# Altium integrated library Altera Stratix II GX.IntLib: 75 symbols (part 3 of 53)
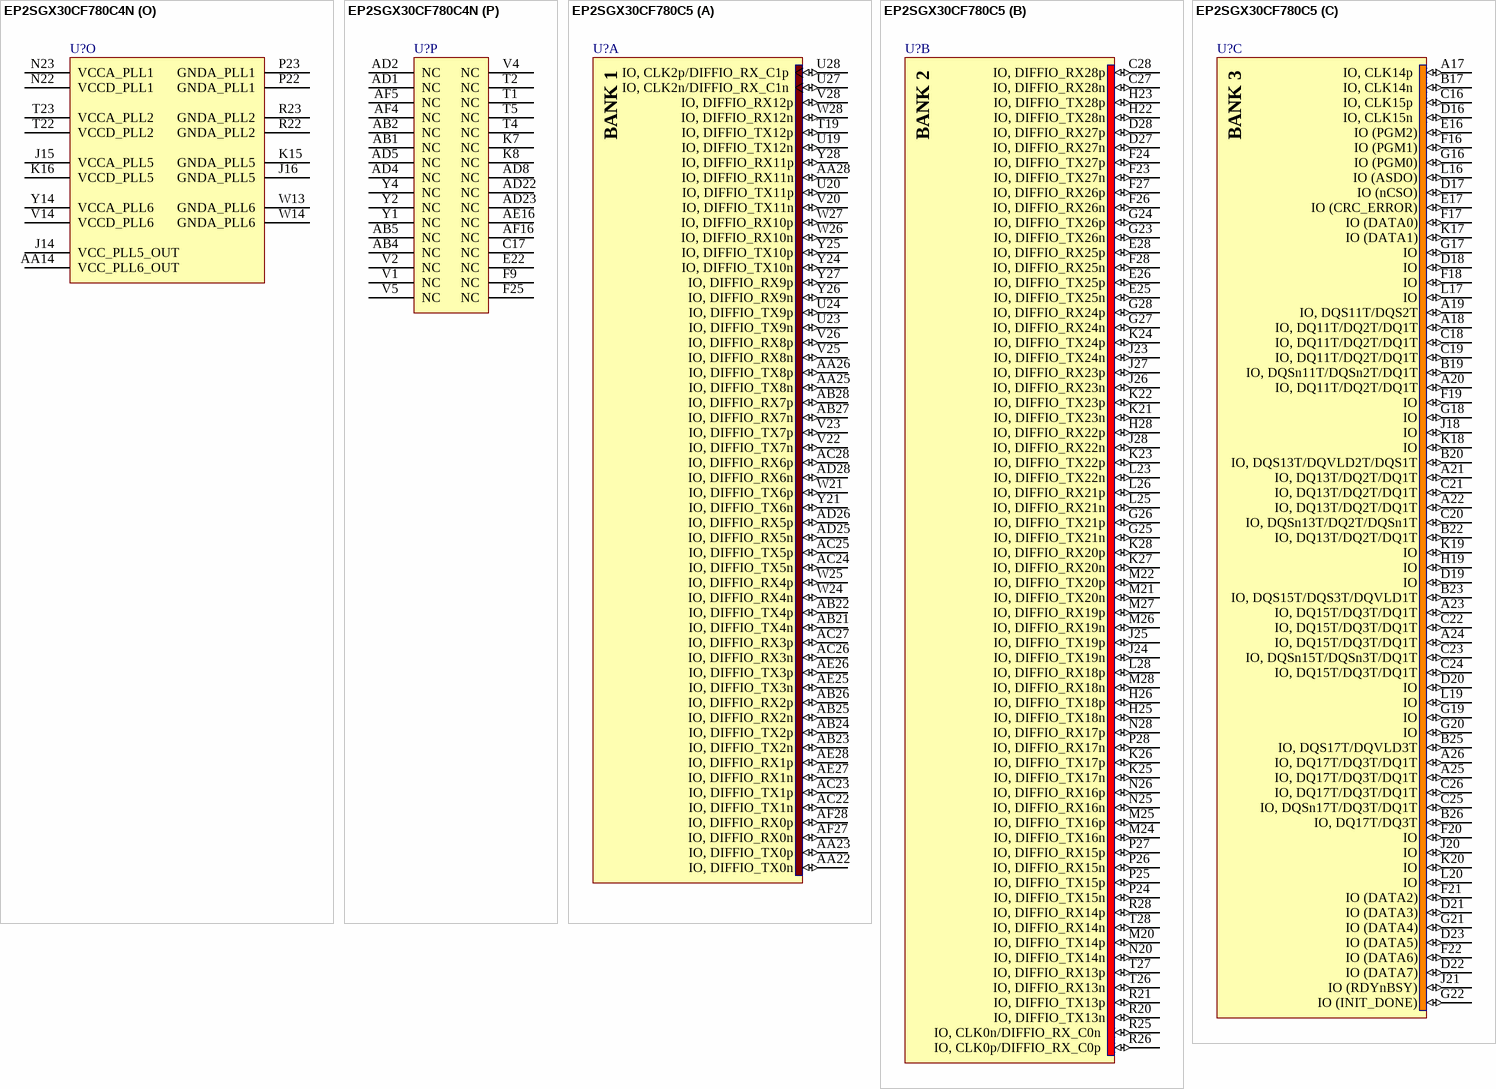
[diagram p229: symbols EP2SGX30CF780C4N to EP2SGX30CF780C5]

## EP2SGX30CF780C4N
designator U?
Stratix II GX 1.2V FPGA, 361 I/Os, 780-Pin FineLine BGA, Speed Grade 4, Commercial Grade, Pb-Free; Published: 30-Jun-2006; DatasheetVersion: ver4.3, Oct-2007; PackageVersion: ver16.0, Dec-2009; PackageReference: FBGA780; Publisher: Altium Limited; PackageDescription: 780-Ball FineLine Ball Grid Array (FBGA780) - Option 1 - Flip Chip; Supplier 1: Digi-Key; Supplier Part Number 1: 544-1927-ND; Code_JEDEC: MS-034-AAM-1; ComponentLink1Description: Manufacturer Link; ComponentLink1URL: http://www.altera.com/products/devices/stratix2gx/s2gx-index.jsp; ComponentLink2Description: Handbook; ComponentLink2URL: http://www.altera.com/literature/hb/stx2gx/stxiigx_handbook.pdf; ComponentLink3Description: Packaging Specification; ComponentLink3URL: http://www.altera.com/literature/ds/dspkg.pdf
footprint FBGA780 (BGA, 780-Leads, Body 29x29mm, Pitch 1mm)
3D model EP2SGX30C-FBGA780 (780-Ball FineLine Ball Grid Array (FBGA780) - Option 1 - Flip Chip)
signal-integrity model EP2SGX30CF780C4N (EP2SGX30C)
part A pins: AA22 IO, DIFFIO_TX0n (io), AA23 IO, DIFFIO_TX0p (io), AA25 IO, DIFFIO_TX8n (io), AA26 IO, DIFFIO_TX8p (io), AA28 IO, DIFFIO_RX11n (io), AB21 IO, DIFFIO_TX4n (io), AB22 IO, DIFFIO_TX4p (io), AB23 IO, DIFFIO_TX2n (io), AB24 IO, DIFFIO_TX2p (io), AB25 IO, DIFFIO_RX2n (io), AB26 IO, DIFFIO_RX2p (io), AB27 IO, DIFFIO_RX7n (io), AB28 IO, DIFFIO_RX7p (io), AC22 IO, DIFFIO_TX1n (io), AC23 IO, DIFFIO_TX1p (io), AC24 IO, DIFFIO_TX5n (io), AC25 IO, DIFFIO_TX5p (io), AC26 IO, DIFFIO_RX3n (io), AC27 IO, DIFFIO_RX3p (io), AC28 IO, DIFFIO_RX6p (io), AD25 IO, DIFFIO_RX5n (io), AD26 IO, DIFFIO_RX5p (io), AD28 IO, DIFFIO_RX6n (io), AE25 IO, DIFFIO_TX3n (io), AE26 IO, DIFFIO_TX3p (io), AE27 IO, DIFFIO_RX1n (io), AE28 IO, DIFFIO_RX1p (io), AF27 IO, DIFFIO_RX0n (io), AF28 IO, DIFFIO_RX0p (io), T19 IO, DIFFIO_TX12p (io), U19 IO, DIFFIO_TX12n (io), U20 IO, DIFFIO_TX11p (io), U23 IO, DIFFIO_TX9n (io), U24 IO, DIFFIO_TX9p (io), U27 IO, CLK2n/DIFFIO_RX_C1n (io), U28 IO, CLK2p/DIFFIO_RX_C1p (io), V20 IO, DIFFIO_TX11n (io), V22 IO, DIFFIO_TX7n (io), V23 IO, DIFFIO_TX7p (io), V25 IO, DIFFIO_RX8n (io), V26 IO, DIFFIO_RX8p (io), V28 IO, DIFFIO_RX12p (io), W21 IO, DIFFIO_TX6p (io), W24 IO, DIFFIO_RX4n (io), W25 IO, DIFFIO_RX4p (io), W26 IO, DIFFIO_RX10n (io), W27 IO, DIFFIO_RX10p (io), W28 IO, DIFFIO_RX12n (io), Y21 IO, DIFFIO_TX6n (io), Y24 IO, DIFFIO_TX10n (io), Y25 IO, DIFFIO_TX10p (io), Y26 IO, DIFFIO_RX9n (io), Y27 IO, DIFFIO_RX9p (io), Y28 IO, DIFFIO_RX11p (io)
part B pins: C27 IO, DIFFIO_RX28n (io), C28 IO, DIFFIO_RX28p (io), D27 IO, DIFFIO_RX27n (io), D28 IO, DIFFIO_RX27p (io), E25 IO, DIFFIO_TX25n (io), E26 IO, DIFFIO_TX25p (io), E28 IO, DIFFIO_RX25p (io), F23 IO, DIFFIO_TX27n (io), F24 IO, DIFFIO_TX27p (io), F26 IO, DIFFIO_RX26n (io), F27 IO, DIFFIO_RX26p (io), F28 IO, DIFFIO_RX25n (io), G23 IO, DIFFIO_TX26n (io), G24 IO, DIFFIO_TX26p (io), G25 IO, DIFFIO_TX21n (io), G26 IO, DIFFIO_TX21p (io), G27 IO, DIFFIO_RX24n (io), G28 IO, DIFFIO_RX24p (io), H22 IO, DIFFIO_TX28n (io), H23 IO, DIFFIO_TX28p (io), H25 IO, DIFFIO_TX18n (io), H26 IO, DIFFIO_TX18p (io), H28 IO, DIFFIO_RX22p (io), J23 IO, DIFFIO_TX24n (io), J24 IO, DIFFIO_TX19n (io), J25 IO, DIFFIO_TX19p (io), J26 IO, DIFFIO_RX23n (io), J27 IO, DIFFIO_RX23p (io), J28 IO, DIFFIO_RX22n (io), K21 IO, DIFFIO_TX23n (io), K22 IO, DIFFIO_TX23p (io), K23 IO, DIFFIO_TX22p (io), K24 IO, DIFFIO_TX24p (io), K25 IO, DIFFIO_TX17n (io), K26 IO, DIFFIO_TX17p (io), K27 IO, DIFFIO_RX20n (io), K28 IO, DIFFIO_RX20p (io), L23 IO, DIFFIO_TX22n (io), L25 IO, DIFFIO_RX21n (io), L26 IO, DIFFIO_RX21p (io), L28 IO, DIFFIO_RX18p (io), M20 IO, DIFFIO_TX14p (io), M21 IO, DIFFIO_TX20n (io), M22 IO, DIFFIO_TX20p (io), M24 IO, DIFFIO_TX16n (io), M25 IO, DIFFIO_TX16p (io), M26 IO, DIFFIO_RX19n (io), M27 IO, DIFFIO_RX19p (io), M28 IO, DIFFIO_RX18n (io), N20 IO, DIFFIO_TX14n (io), N25 IO, DIFFIO_RX16n (io), N26 IO, DIFFIO_RX16p (io), N28 IO, DIFFIO_RX17p (io), P24 IO, DIFFIO_TX15n (io), P25 IO, DIFFIO_TX15p (io), P26 IO, DIFFIO_RX15n (io), P27 IO, DIFFIO_RX15p (io), P28 IO, DIFFIO_RX17n (io), R20 IO, DIFFIO_TX13n (io), R21 IO, DIFFIO_TX13p (io), R25 IO, CLK0n/DIFFIO_RX_C0n (io), R26 IO, CLK0p/DIFFIO_RX_C0p (io), R28 IO, DIFFIO_RX14p (io), T26 IO, DIFFIO_RX13n (io), T27 IO, DIFFIO_RX13p (io), T28 IO, DIFFIO_RX14n (io)
part C pins: A17 IO, CLK14p (io), A18 IO, DQ11T/DQ2T/DQ1T (io), A19 IO, DQS11T/DQS2T (io), A20 IO, DQ11T/DQ2T/DQ1T (io), A21 IO, DQ13T/DQ2T/DQ1T (io), A22 IO, DQ13T/DQ2T/DQ1T (io), A23 IO, DQ15T/DQ3T/DQ1T (io), A24 IO, DQ15T/DQ3T/DQ1T (io), A25 IO, DQ17T/DQ3T/DQ1T (io), A26 IO, DQ17T/DQ3T/DQ1T (io), B17 IO, CLK14n (io), B19 IO, DQSn11T/DQSn2T/DQ1T (io), B20 IO, DQS13T/DQVLD2T/DQS1T (io), B22 IO, DQ13T/DQ2T/DQ1T (io), B23 IO, DQS15T/DQS3T/DQVLD1T (io), B25 IO, DQS17T/DQVLD3T (io), B26 IO, DQ17T/DQ3T (io), C16 IO, CLK15p (io), C18 IO, DQ11T/DQ2T/DQ1T (io), C19 IO, DQ11T/DQ2T/DQ1T (io), C20 IO, DQSn13T/DQ2T/DQSn1T (io), C21 IO, DQ13T/DQ2T/DQ1T (io), C22 IO, DQ15T/DQ3T/DQ1T (io), C23 IO, DQSn15T/DQSn3T/DQ1T (io), C24 IO, DQ15T/DQ3T/DQ1T (io), C25 IO, DQSn17T/DQ3T/DQ1T (io), C26 IO, DQ17T/DQ3T/DQ1T (io), D16 IO, CLK15n (io), D17 IO (nCSO) (io), D18 IO (io), D19 IO (io), D20 IO (io), D21 IO (DATA3) (io), D22 IO (DATA7) (io), D23 IO (DATA5) (io), E16 IO (PGM2) (io), E17 IO (CRC_ERROR) (io), F16 IO (PGM1) (io), F17 IO (DATA0) (io), F18 IO (io), F19 IO (io), F20 IO (io), F21 IO (DATA2) (io), F22 IO (DATA6) (io), G16 IO (PGM0) (io), G17 IO (io), G18 IO (io), G19 IO (io), G20 IO (io), G21 IO (DATA4) (io), G22 IO (INIT_DONE) (io), H19 IO (io), J18 IO (io), J20 IO (io), J21 IO (RDYnBSY) (io), K17 IO (DATA1) (io), K18 IO (io), K19 IO (io), K20 IO (io), L16 IO (ASDO) (io), L17 IO (io), L19 IO (io), L20 IO (io)
part D pins: A7 IO, DQ1T (io), A8 IO, DQ1T (io), A9 IO, DQ3T/DQ0T/DQ0T (io), A10 IO, DQ5T/DQ0T/DQ0T (io), A11 IO, DQ7T/DQ1T/DQ0T (io), A12 IO, DQ7T/DQ1T/DQ0T (io), A13 IO, DQ9T/DQ1T/DQ0T (io), A16 IO, CLK12p (io), B8 IO, DQSn1T (io), B10 IO, DQ3T/DQ0T/DQ0T (io), B11 IO, DQSn5T/DQ0T/DQSn0T (io), B13 IO, DQ9T/DQ1T/DQ0T (io), B14 IO, DQS9T/DQVLD1T (io), B16 IO, CLK12n (io), C7 IO, RUP4 (io), C8 IO, DQS1T (io), C9 IO, DQ3T/DQ0T/DQ0T (io), C10 IO, DQSn3T/DQSn0T/DQ0T (io), C11 IO, DQS5T/DQVLD0T/DQS0T (io), C12 IO, DQ5T/DQ0T/DQ0T (io), C13 IO, DQSn7T/DQSn1T/DQ0T (io), C14 IO, DQSn9T/DQ1T/DQ0T (io), D7 IO, RDN4 (io), D8 IO, DQ1T (io), D9 IO, DQ1T (io), D10 IO, DQS3T/DQS0T (io), D11 IO, DQ5T/DQ0T/DQ0T (io), D12 IO, DQ5T/DQ0T/DQ0T (io), D13 IO, DQS7T/DQS1T/DQVLD0T (io), D14 IO, DQ9T/DQ1T (io), E10 IO (io), E11 IO, DQ3T/DQ0T/DQ0T (io), E13 IO, DQ7T/DQ1T/DQ0T (io), E14 IO, DQ9T/DQ1T/DQ0T (io), F11 IO (io), F13 IO, DQ7T/DQ1T/DQ0T (io), F15 IO, CLK13p (io), G9 IO (io), G10 IO (io), G11 IO (io), G12 IO (io), G13 IO (io), G15 IO, CLK13n (io), H10 IO (io), H11 IO (io), H13 IO (io), J10 IO (io), J11 IO (io), K10 IO (io), K11 IO (io), K12 IO (io), K13 IO (io), K14 IO (io), L12 IO (io), L13 IO (io), L14 IO (io)
part E pins: AA11 IO (io), AB8 IO, RUP7 (io), AB9 IO (io), AB10 IO (io), AB11 IO (io), AB12 IO (io), AB13 IO (io), AC8 IO, RDN7 (io), AC9 IO (io), AC11 IO (io), AC12 IO (io), AC13 IO, DQ9B/DQ1B/DQ0B (io), AC14 IO, DQ9B/DQ1B/DQ0B (io), AD10 IO, DQ3B/DQ0B/DQ0B (io), AD11 IO, DQ5B/DQ0B/DQ0B (io), AD13 IO, DQ9B/DQ1B/DQ0B (io), AE7 IO, DQ1B (io), AE8 IO, DQ1B (io), AE9 IO, DQS3B/DQS0B (io), AE10 IO, DQ3B/DQ0B/DQ0B (io), AE11 IO, DQS5B/DQVLD0B/DQS0B (io), AE12 IO, DQS7B/DQS1B/DQVLD0B (io), AE13 IO, DQSn9B/DQ1B/DQ0B (io), AE15 IO, CLK7n (io), AF7 IO, DQ1B (io), AF8 IO, DQS1B (io), AF9 IO, DQSn3B/DQSn0B/DQ0B (io), AF10 IO, DQ5B/DQ0B/DQ0B (io), AF11 IO, DQSn5B/DQ0B/DQSn0B (io), AF12 IO, DQSn7B/DQSn1B/DQ0B (io), AF13 IO, DQS9B/DQVLD1B (io), AF15 IO, CLK7p (io), AG8 IO, DQSn1B (io), AG10 IO, DQ5B/DQ0B/DQ0B (io), AG11 IO, DQ7B/DQ1B/DQ0B (io), AG13 IO, DQ9B/DQ1B (io), AG16 IO, CLK6n (io), AH7 IO, DQ1B (io), AH8 IO, DQ3B/DQ0B/DQ0B (io), AH9 IO, DQ3B/DQ0B/DQ0B (io), AH10 IO, DQ5B/DQ0B/DQ0B (io), AH11 IO, DQ7B/DQ1B/DQ0B (io), AH12 IO, DQ7B/DQ1B/DQ0B (io), AH13 IO, DQ7B/DQ1B/DQ0B (io), AH16 IO, CLK6p (io), V11 IO (io), V13 IO (io), W9 IO (io), W10 IO (io), W11 IO (io), W12 IO (io), Y10 IO (io), Y11 IO (io), Y13 IO (io)
part F pins: AA17 IO (io), AA19 IO (io), AB15 IO, CLK5n (io), AB16 IO (io), AB17 IO (io), AB18 IO (io), AB19 IO (io), AB20 IO (io), AC15 IO, CLK5p (io), AC16 IO (RUnLU) (io), AC17 IO (io), AC18 IO (io), AC19 IO (io), AC20 IO (io), AC21 IO (CLKUSR) (io), AD16 IO (DEV_OE) (io), AD20 IO (io), AE17 IO (DEV_CLRn) (io), AE18 IO (io), AE19 IO (io), AE20 IO (io), AE21 IO (nRS) (io), AE22 IO (nWS) (io), AE23 IO (io), AE24 IO (CS) (io), AF17 IO (nCS) (io), AF18 IO, DQ11B/DQ2B/DQ1B (io), AF19 IO, DQ11B/DQ2B/DQ1B (io), AF20 IO, DQSn13B/DQ2B/DQSn1B (io), AF21 IO, DQ13B/DQ2B/DQ1B (io), AF22 IO, DQ15B/DQ3B/DQ1B (io), AF23 IO, DQSn15B/DQSn3B/DQ1B (io), AF24 IO, DQ15B/DQ3B/DQ1B (io), AF25 IO, DQSn17B/DQ3B/DQ1B (io), AF26 IO, DQ17B/DQ3B (io), AG17 IO, CLK4n (io), AG19 IO, DQSn11B/DQSn2B/DQ1B (io), AG20 IO, DQS13B/DQVLD2B/DQS1B (io), AG22 IO, DQ13B/DQ2B/DQ1B (io), AG23 IO, DQS15B/DQS3B/DQVLD1B (io), AG25 IO, DQS17B/DQVLD3B (io), AG26 IO, DQ17B/DQ3B/DQ1B (io), AH17 IO, CLK4p (io), AH18 IO, DQ11B/DQ2B/DQ1B (io), AH19 IO, DQS11B/DQS2B (io), AH20 IO, DQ11B/DQ2B/DQ1B (io), AH21 IO, DQ13B/DQ2B/DQ1B (io), AH22 IO, DQ13B/DQ2B/DQ1B (io), AH23 IO, DQ15B/DQ3B/DQ1B (io), AH24 IO, DQ15B/DQ3B/DQ1B (io), AH25 IO, DQ17B/DQ3B/DQ1B (io), AH26 IO, DQ17B/DQ3B/DQ1B (io), W15 IO (io), W16 IO (io), Y15 IO (io), Y17 IO (io)
part G pins: A14 IO, PLL5_OUT0n (io), A15 IO, PLL5_OUT0p (io), C15 IO, PLL5_OUT1p (io), D15 IO, PLL5_OUT1n (io), F14 IO, PLL5_FBp/OUT2p (io), G14 IO, PLL5_FBn/OUT2n (io)
part H pins: AD14 IO, PLL6_FBn/OUT2n (io), AE14 IO, PLL6_FBp/OUT2p (io), AF14 IO, PLL6_OUT1n (io), AG14 IO, PLL6_OUT1p (io), AH14 IO, PLL6_OUT0n (io), AH15 IO, PLL6_OUT0p (io)
part I pins: C4 GXB_TX1p (out), C5 GXB_TX1n (out), E1 GXB_RX1p (in), E2 GXB_RX1n (in), E4 GXB_TX0p (out), E5 GXB_TX0n (out), G1 GXB_RX0p (in), G2 GXB_RX0n (in), G4 REFCLK1_B13p (in), G5 REFCLK1_B13n (in), J1 REFCLK0_B13p (in), J2 REFCLK0_B13n (in), L1 GXB_RX2p (in), L2 GXB_RX2n (in), L4 GXB_TX2p (out), L5 GXB_TX2n (out), N1 GXB_RX3p (in), N2 GXB_RX3n (in), N4 GXB_TX3p (out), N5 GXB_TX3n (out)
part J pins: T24 CLK1n, INPUT (in), T25 CLK1p, INPUT (in), U25 CLK3n, INPUT (in), U26 CLK3p, INPUT (in)
part K pins: AB14 VREFB7N0 (in), AC10 VREFB7N1 (in), AD17 VREFB8N1 (in), AD19 VREFB8N0 (in), E19 VREFB3N0 (in), E20 VREFB3N1 (in), F10 VREFB4N0 (in), F12 VREFB4N1 (in), J4 RREFB13 (in), M23 VREFB2N1 (in), T21 VREFB2N0 (in), W23 VREFB1N1 (in), Y23 VREFB1N0 (in)
part L pins: AA8 PLL_ENA (in), AB7 nCEO (out), D24 nCE (in), D25 DCLK (io), D26 CONF_DONE (io), E8 MSEL1 (in), E23 nSTATUS (io), F7 TEMPDIODEp (in), F8 TDO (out), G7 TEMPDIODEn (in), G8 MSEL3 (in), H8 MSEL2 (in), J8 MSEL0 (in), J13 VCCPD4 (power), J17 VCCPD3 (power), P20 VCCPD2 (power), T20 VCCPD1 (power), V16 TCK (in), V17 nCONFIG (in), V19 TDI (in), W17 TRST (in), W18 VCCSEL (in), W19 TMS (in), Y7 nIO_PULLUP (in), Y8 PORSEL (in), Y12 VCCPD7 (power), Y16 VCCPD8 (power)
part M pins: AA10 VCCIO7 (power), AA13 VCCIO7 (power), AA16 VCCIO8 (power), H14 VCCIO4 (power), H17 VCCIO3 (power), H20 VCCIO3 (power), J9 VCCIO4 (power), J12 VCCIO4 (power), J19 VCCIO3 (power), J22 VCCIO2 (power), K9 VCCA (power), L6 VCCA (power), L7 VCCR (power), L8 VCCT_B13 (power), L9 VCCH_B13 (power), L10 VCCP (power), L22 VCCIO2 (power), M6 VCCA (power), M7 VCCR (power), M8 VCCT_B13 (power), M9 VCCH_B13 (power), M10 VCCP (power), M11 VCCINT (power), M13 VCCINT (power), M15 VCCINT (power), M17 VCCINT (power), N6 VCCL (power), N12 VCCINT (power), N14 VCCINT (power), N16 VCCINT (power), N18 VCCINT (power), N21 VCCIO2 (power), P7 VCCA (power), P9 VCCA (power), P11 VCCINT (power), P13 VCCINT (power), P15 VCCINT (power), P17 VCCINT (power), R6 VCCA (power), R7 VCCR (power), R8 VCCT_B14 (power), R9 VCCH_B14 (power), R10 VCCP (power), R12 VCCINT (power), R14 VCCINT (power), R16 VCCINT (power), R18 VCCINT (power), T6 VCCA (power), T7 VCCR (power), T8 VCCT_B14 (power), T9 VCCH_B14 (power), T10 VCCP (power), T11 VCCINT (power), T13 VCCINT (power), T15 VCCINT (power), T17 VCCINT (power), U6 VCCL (power), U12 VCCINT (power), U14 VCCINT (power), U16 VCCINT (power), U18 VCCINT (power), U22 VCCIO1 (power), V7 VCCA (power), V9 VCCA (power), V21 VCCIO1 (power), Y9 VCCIO7 (power), Y18 VCCIO8 (power), Y19 VCCIO8 (power), Y22 VCCIO1 (power)
part N pins: A2 GND (power), A3 GND (power), A4 GND (power), A5 GND (power), A6 GND (power), A27 GND (power), AA1 GND (power), AA2 GND (power), AA3 GND (power), AA4 GND (power), AA5 GND (power), AA6 GND (power), AA7 GND (power), AA9 GND (power), AA12 GND (power), AA15 GND (power), AA18 GND (power), AA20 GND (power), AA21 GND (power), AA24 GND (power), AA27 GND (power), AB3 GND (power), AB6 GND (power), AC1 GND (power), AC2 GND (power), AC3 GND (power), AC4 GND (power), AC5 GND (power), AC6 GND (power), AC7 GND (power), AD3 GND (power), AD6 GND (power), AD7 GND (power), AD9 GND (power), AD12 GND (power), AD15 GND (power), AD18 GND (power), AD21 GND (power), AD24 GND (power), AD27 GND (power), AE1 GND (power), AE2 GND (power), AE3 GND (power), AE4 GND (power), AE5 GND (power), AE6 GND (power), AF1 GND (power), AF2 GND (power), AF3 GND (power), AF6 GND (power), AG1 GND (power), AG2 GND (power), AG3 GND (power), AG4 GND (power), AG5 GND (power), AG6 GND (power), AG7 GND (power), AG9 GND (power), AG12 GND (power), AG15 GND (power), AG18 GND (power), AG21 GND (power), AG24 GND (power), AG27 GND (power), AG28 GND (power), AH2 GND (power), AH3 GND (power), AH4 GND (power), AH5 GND (power), AH6 GND (power), AH27 GND (power), B1 GND (power), B2 GND (power), B3 GND (power), B4 GND (power), B5 GND (power), B6 GND (power), B7 GND (power), B9 GND (power), B12 GND (power), B15 GND (power), B18 GND (power), B21 GND (power), B24 GND (power), B27 GND (power), B28 GND (power), C1 GND (power), C2 GND (power), C3 GND (power), C6 GND (power), D1 GND (power), D2 GND (power), D3 GND (power), D4 GND (power), D5 GND (power), D6 GND (power), E3 GND (power), E6 GND (power), E7 GND (power), E9 GND (power), E12 GND (power), E15 GND (power), E18 GND (power), E21 GND (power), E24 GND (power), E27 GND (power), F1 GND (power), F2 GND (power), F3 GND (power), F4 GND (power), F5 GND (power), F6 GND (power), G3 GND (power), G6 GND (power), H1 GND (power), H2 GND (power), H3 GND (power), H4 GND (power), H5 GND (power), H6 GND (power), H7 GND (power), H9 GND (power), H12 GND (power), H15 GND (power), H16 GND (power), H18 GND (power), H21 GND (power), H24 GND (power), H27 GND (power), J3 GND (power), J5 GND (power), J6 GND (power), J7 GND (power), K1 GND (power), K2 GND (power), K3 GND (power), K4 GND (power), K5 GND (power), K6 GND (power), L3 GND (power), L11 GND (power), L15 GND (power), L18 GND (power), L21 GND (power), L24 GND (power), L27 GND (power), M1 GND (power), M2 GND (power), M3 GND (power), M4 GND (power), M5 GND (power), M12 GND (power), M14 GND (power), M16 GND (power), M18 GND (power), M19 GND (power), N3 GND (power), N7 GND (power), N8 GND (power), N9 GND (power), N10 GND (power), N11 GND (power), N13 GND (power), N15 GND (power), N17 GND (power), N19 GND (power), N24 GND (power), N27 GND (power), P1 GND (power), P2 GND (power), P3 GND (power), P4 GND (power), P5 GND (power), P6 GND (power), P8 GND (power), P10 GND (power), P12 GND (power), P14 GND (power), P16 GND (power), P18 GND (power), P19 GND (power), P21 GND (power), R1 GND (power), R2 GND (power), R3 GND (power), R4 GND (power), R5 GND (power), R11 GND (power), R13 GND (power), R15 GND (power), R17 GND (power), R19 GND (power), R24 GND (power), R27 GND (power), T3 GND (power), T12 GND (power), T14 GND (power), T16 GND (power), T18 GND (power), U1 GND (power), U2 GND (power), U3 GND (power), U4 GND (power), U5 GND (power), U7 GND (power), U8 GND (power), U9 GND (power), U10 GND (power), U11 GND (power), U13 GND (power), U15 GND (power), U17 GND (power), U21 GND (power), V3 GND (power), V6 GND (power), V8 GND (power), V10 GND (power), V12 GND (power), V15 GND (power), V18 GND (power), V24 GND (power), V27 GND (power), W1 GND (power), W2 GND (power), W3 GND (power), W4 GND (power), W5 GND (power), W6 GND (power), W7 GND (power), W8 GND (power), W20 GND (power), W22 GND (power), Y3 GND (power), Y5 GND (power), Y6 GND (power), Y20 GND (power)
part O pins: AA14 VCC_PLL6_OUT (power), J14 VCC_PLL5_OUT (power), J15 VCCA_PLL5 (power), J16 GNDA_PLL5 (power), K15 GNDA_PLL5 (power), K16 VCCD_PLL5 (power), N22 VCCD_PLL1 (power), N23 VCCA_PLL1 (power), P22 GNDA_PLL1 (power), P23 GNDA_PLL1 (power), R22 GNDA_PLL2 (power), R23 GNDA_PLL2 (power), T22 VCCD_PLL2 (power), T23 VCCA_PLL2 (power), V14 VCCD_PLL6 (power), W13 GNDA_PLL6 (power), W14 GNDA_PLL6 (power), Y14 VCCA_PLL6 (power)
part P pins: AB1 NC, AB2 NC, AB4 NC, AB5 NC, AD1 NC, AD2 NC, AD4 NC, AD5 NC, AD8 NC, AD22 NC, AD23 NC, AE16 NC, AF4 NC, AF5 NC, AF16 NC, C17 NC, E22 NC, F9 NC, F25 NC, K7 NC, K8 NC, T1 NC, T2 NC, T4 NC, T5 NC, V1 NC, V2 NC, V4 NC, V5 NC, Y1 NC, Y2 NC, Y4 NC
part A text: BANK 1
part B text: BANK 2
part C text: BANK 3
part D text: BANK 4
part E text: BANK 7
part F text: BANK 8
part G text: BANK 9
part H text: BANK 10
part I text: BANK 13

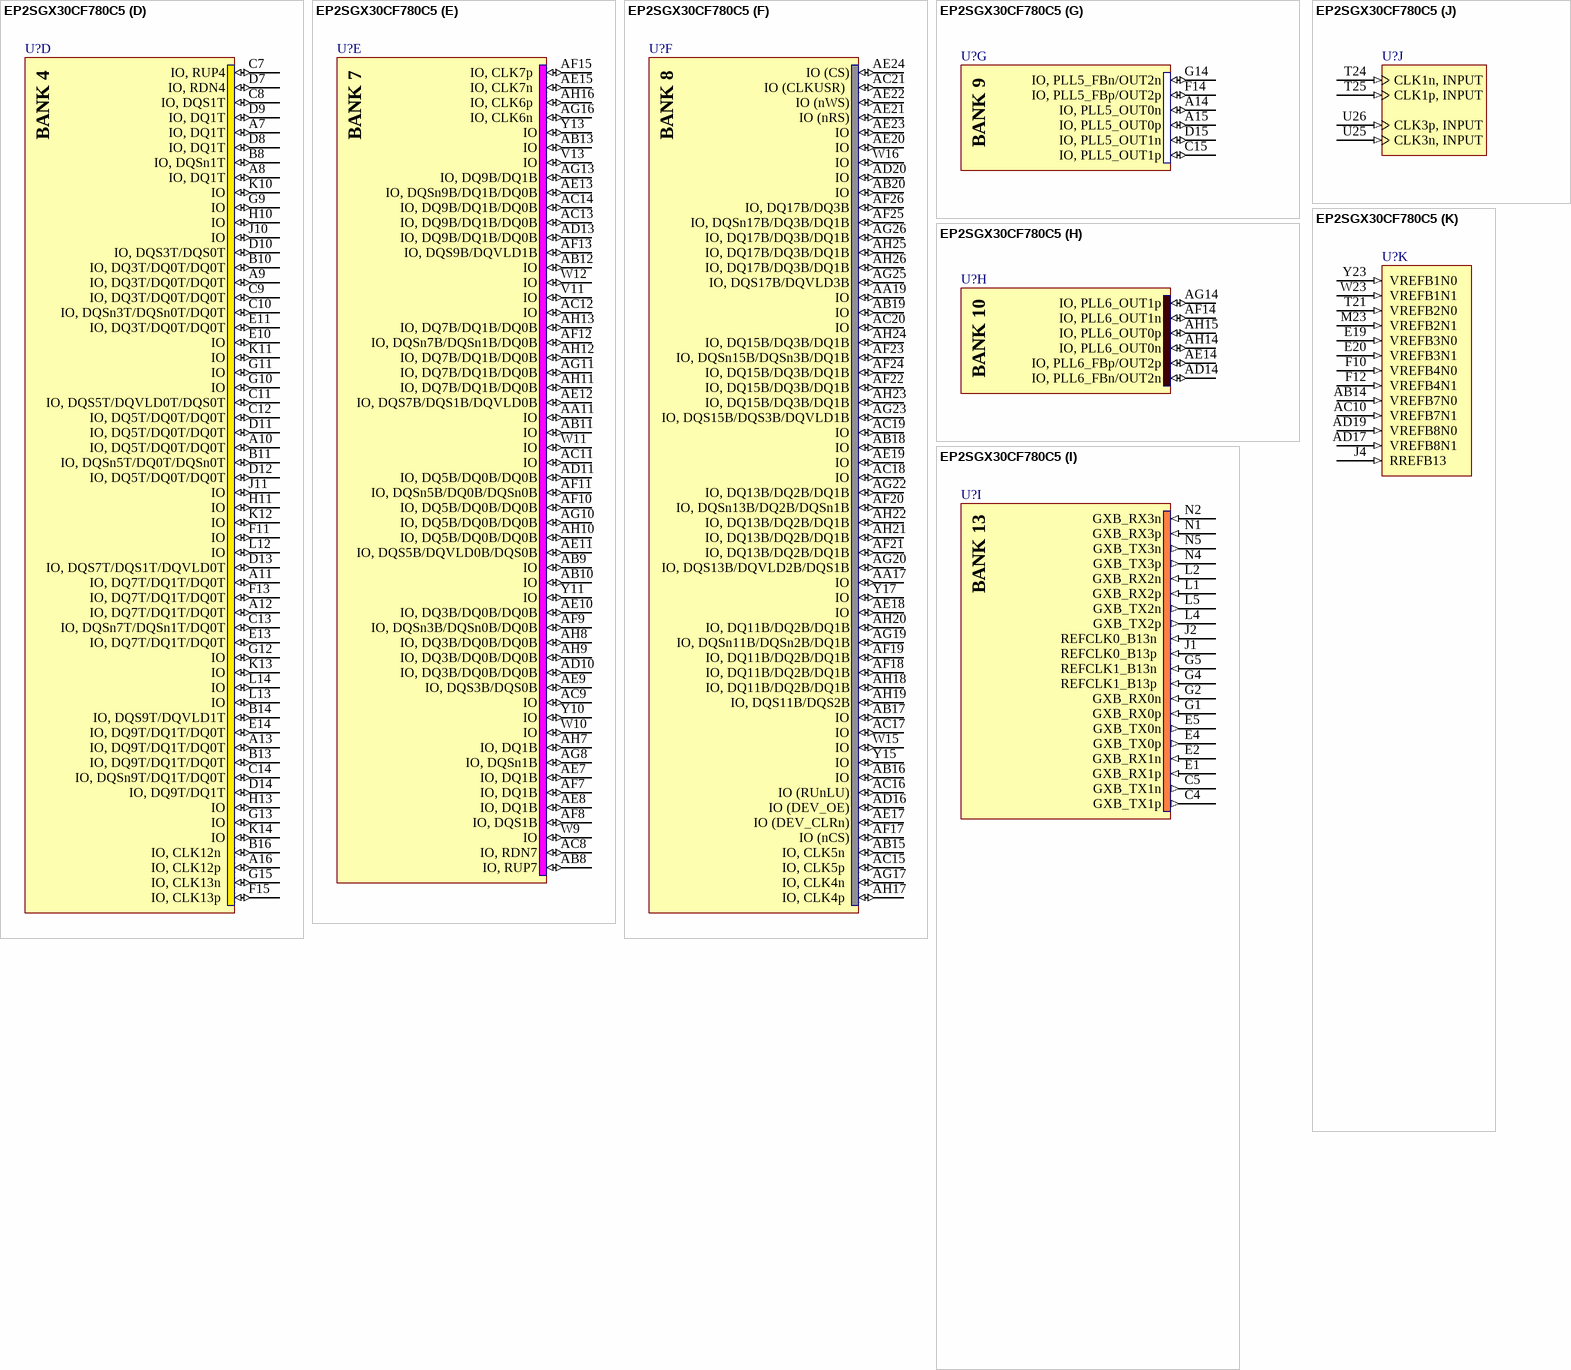
[diagram p11: symbol EP2SGX30CF780C5]

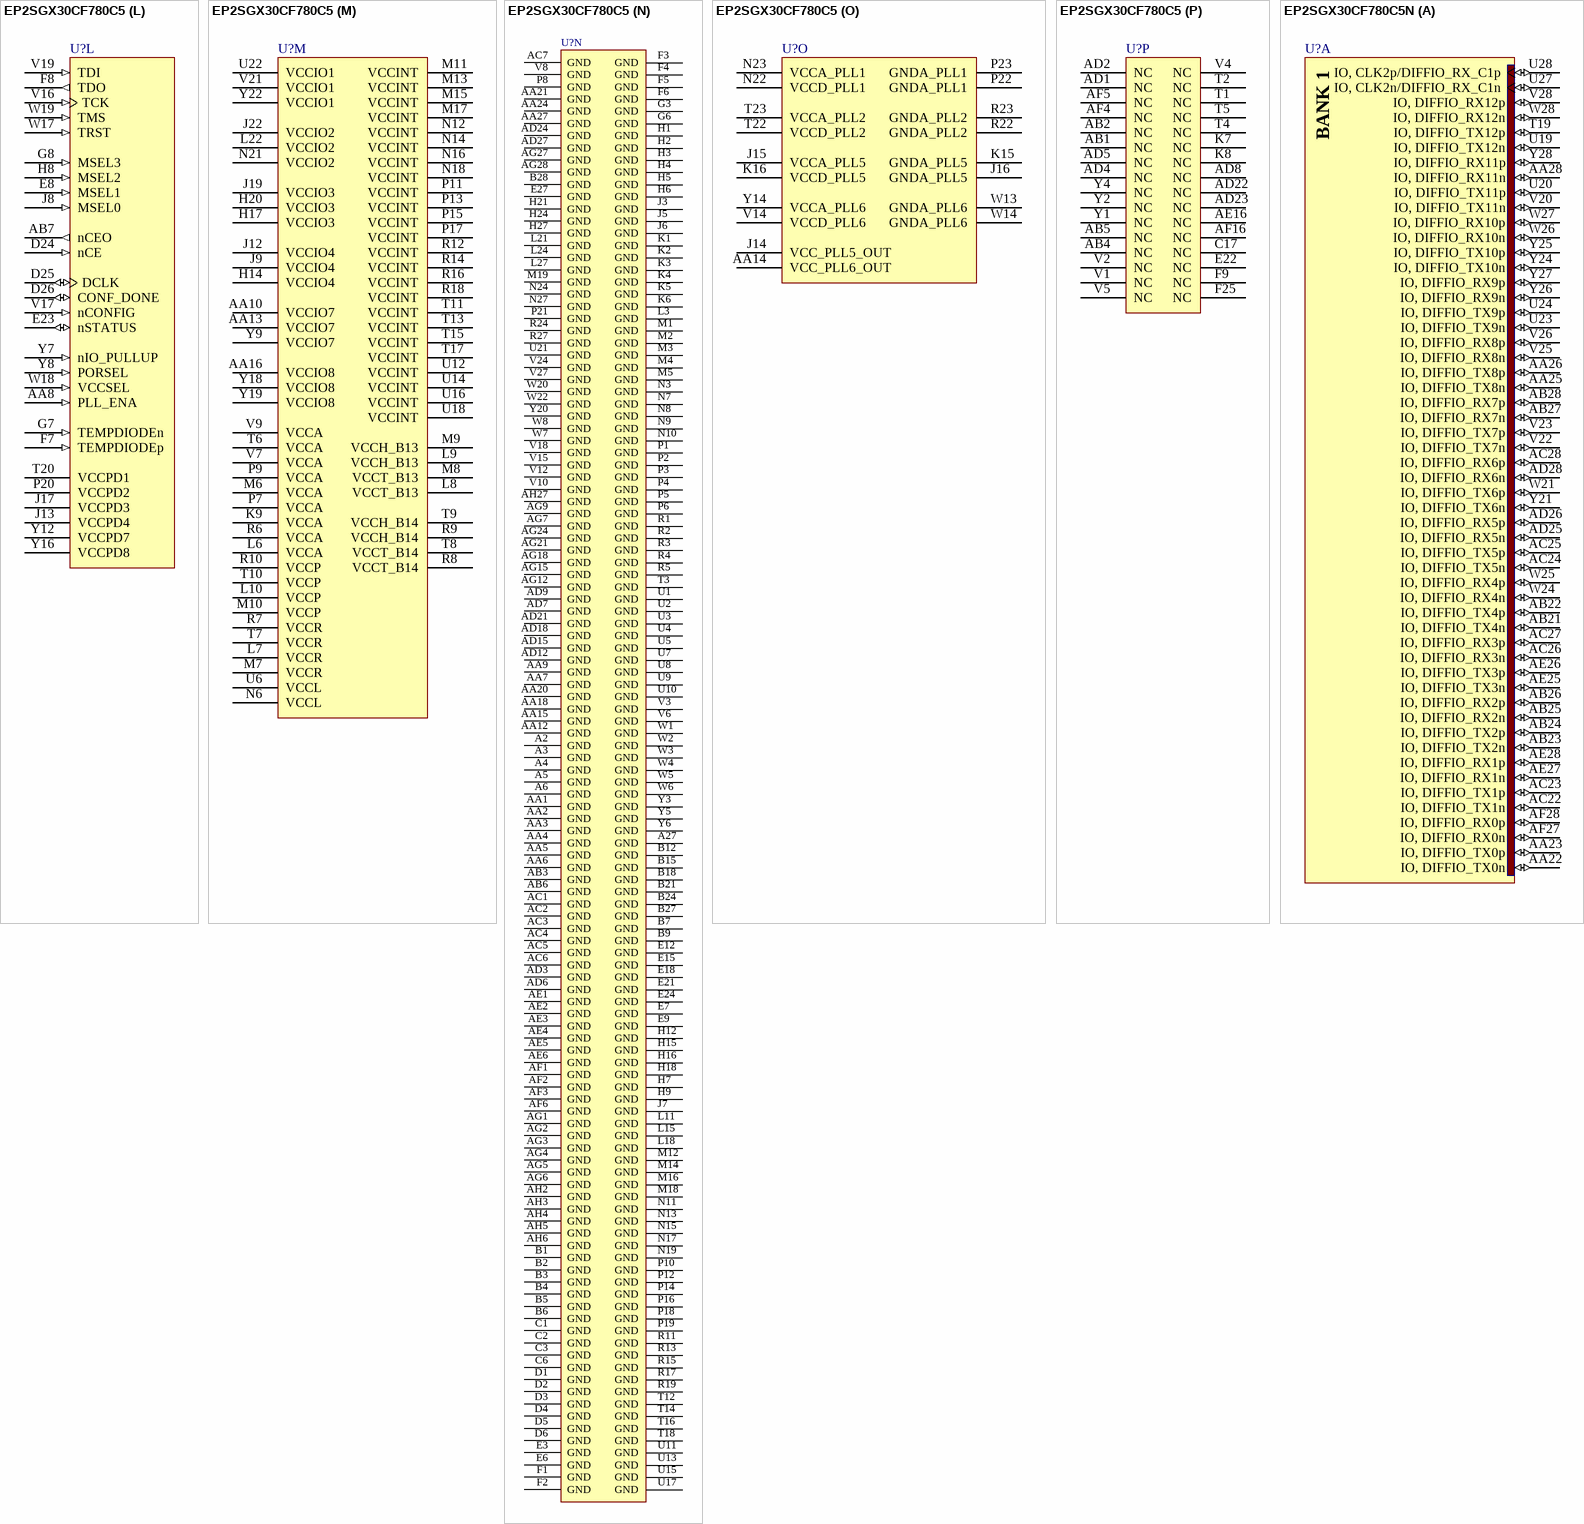
[diagram p12: symbols EP2SGX30CF780C5 to EP2SGX30CF780C5N]

## EP2SGX30CF780C5
designator U?
Stratix II GX 1.2V FPGA, 361 I/Os, 780-Pin FineLine BGA, Speed Grade 5, Commercial Grade; Published: 30-Jun-2006; DatasheetVersion: ver4.3, Oct-2007; PackageVersion: ver16.0, Dec-2009; PackageReference: FBGA780; Publisher: Altium Limited; PackageDescription: 780-Ball FineLine Ball Grid Array (FBGA780) - Option 1 - Flip Chip; Supplier 1: Digi-Key; Supplier Part Number 1: 544-1749-ND; Code_JEDEC: MS-034-AAM-1; ComponentLink1Description: Manufacturer Link; ComponentLink1URL: http://www.altera.com/products/devices/stratix2gx/s2gx-index.jsp; ComponentLink2Description: Handbook; ComponentLink2URL: http://www.altera.com/literature/hb/stx2gx/stxiigx_handbook.pdf; ComponentLink3Description: Packaging Specification; ComponentLink3URL: http://www.altera.com/literature/ds/dspkg.pdf
footprint FBGA780 (BGA, 780-Leads, Body 29x29mm, Pitch 1mm)
3D model EP2SGX30C-FBGA780 (780-Ball FineLine Ball Grid Array (FBGA780) - Option 1 - Flip Chip)
signal-integrity model EP2SGX30CF780C5 (EP2SGX30C)
part A pins: AA22 IO, DIFFIO_TX0n (io), AA23 IO, DIFFIO_TX0p (io), AA25 IO, DIFFIO_TX8n (io), AA26 IO, DIFFIO_TX8p (io), AA28 IO, DIFFIO_RX11n (io), AB21 IO, DIFFIO_TX4n (io), AB22 IO, DIFFIO_TX4p (io), AB23 IO, DIFFIO_TX2n (io), AB24 IO, DIFFIO_TX2p (io), AB25 IO, DIFFIO_RX2n (io), AB26 IO, DIFFIO_RX2p (io), AB27 IO, DIFFIO_RX7n (io), AB28 IO, DIFFIO_RX7p (io), AC22 IO, DIFFIO_TX1n (io), AC23 IO, DIFFIO_TX1p (io), AC24 IO, DIFFIO_TX5n (io), AC25 IO, DIFFIO_TX5p (io), AC26 IO, DIFFIO_RX3n (io), AC27 IO, DIFFIO_RX3p (io), AC28 IO, DIFFIO_RX6p (io), AD25 IO, DIFFIO_RX5n (io), AD26 IO, DIFFIO_RX5p (io), AD28 IO, DIFFIO_RX6n (io), AE25 IO, DIFFIO_TX3n (io), AE26 IO, DIFFIO_TX3p (io), AE27 IO, DIFFIO_RX1n (io), AE28 IO, DIFFIO_RX1p (io), AF27 IO, DIFFIO_RX0n (io), AF28 IO, DIFFIO_RX0p (io), T19 IO, DIFFIO_TX12p (io), U19 IO, DIFFIO_TX12n (io), U20 IO, DIFFIO_TX11p (io), U23 IO, DIFFIO_TX9n (io), U24 IO, DIFFIO_TX9p (io), U27 IO, CLK2n/DIFFIO_RX_C1n (io), U28 IO, CLK2p/DIFFIO_RX_C1p (io), V20 IO, DIFFIO_TX11n (io), V22 IO, DIFFIO_TX7n (io), V23 IO, DIFFIO_TX7p (io), V25 IO, DIFFIO_RX8n (io), V26 IO, DIFFIO_RX8p (io), V28 IO, DIFFIO_RX12p (io), W21 IO, DIFFIO_TX6p (io), W24 IO, DIFFIO_RX4n (io), W25 IO, DIFFIO_RX4p (io), W26 IO, DIFFIO_RX10n (io), W27 IO, DIFFIO_RX10p (io), W28 IO, DIFFIO_RX12n (io), Y21 IO, DIFFIO_TX6n (io), Y24 IO, DIFFIO_TX10n (io), Y25 IO, DIFFIO_TX10p (io), Y26 IO, DIFFIO_RX9n (io), Y27 IO, DIFFIO_RX9p (io), Y28 IO, DIFFIO_RX11p (io)
part B pins: C27 IO, DIFFIO_RX28n (io), C28 IO, DIFFIO_RX28p (io), D27 IO, DIFFIO_RX27n (io), D28 IO, DIFFIO_RX27p (io), E25 IO, DIFFIO_TX25n (io), E26 IO, DIFFIO_TX25p (io), E28 IO, DIFFIO_RX25p (io), F23 IO, DIFFIO_TX27n (io), F24 IO, DIFFIO_TX27p (io), F26 IO, DIFFIO_RX26n (io), F27 IO, DIFFIO_RX26p (io), F28 IO, DIFFIO_RX25n (io), G23 IO, DIFFIO_TX26n (io), G24 IO, DIFFIO_TX26p (io), G25 IO, DIFFIO_TX21n (io), G26 IO, DIFFIO_TX21p (io), G27 IO, DIFFIO_RX24n (io), G28 IO, DIFFIO_RX24p (io), H22 IO, DIFFIO_TX28n (io), H23 IO, DIFFIO_TX28p (io), H25 IO, DIFFIO_TX18n (io), H26 IO, DIFFIO_TX18p (io), H28 IO, DIFFIO_RX22p (io), J23 IO, DIFFIO_TX24n (io), J24 IO, DIFFIO_TX19n (io), J25 IO, DIFFIO_TX19p (io), J26 IO, DIFFIO_RX23n (io), J27 IO, DIFFIO_RX23p (io), J28 IO, DIFFIO_RX22n (io), K21 IO, DIFFIO_TX23n (io), K22 IO, DIFFIO_TX23p (io), K23 IO, DIFFIO_TX22p (io), K24 IO, DIFFIO_TX24p (io), K25 IO, DIFFIO_TX17n (io), K26 IO, DIFFIO_TX17p (io), K27 IO, DIFFIO_RX20n (io), K28 IO, DIFFIO_RX20p (io), L23 IO, DIFFIO_TX22n (io), L25 IO, DIFFIO_RX21n (io), L26 IO, DIFFIO_RX21p (io), L28 IO, DIFFIO_RX18p (io), M20 IO, DIFFIO_TX14p (io), M21 IO, DIFFIO_TX20n (io), M22 IO, DIFFIO_TX20p (io), M24 IO, DIFFIO_TX16n (io), M25 IO, DIFFIO_TX16p (io), M26 IO, DIFFIO_RX19n (io), M27 IO, DIFFIO_RX19p (io), M28 IO, DIFFIO_RX18n (io), N20 IO, DIFFIO_TX14n (io), N25 IO, DIFFIO_RX16n (io), N26 IO, DIFFIO_RX16p (io), N28 IO, DIFFIO_RX17p (io), P24 IO, DIFFIO_TX15n (io), P25 IO, DIFFIO_TX15p (io), P26 IO, DIFFIO_RX15n (io), P27 IO, DIFFIO_RX15p (io), P28 IO, DIFFIO_RX17n (io), R20 IO, DIFFIO_TX13n (io), R21 IO, DIFFIO_TX13p (io), R25 IO, CLK0n/DIFFIO_RX_C0n (io), R26 IO, CLK0p/DIFFIO_RX_C0p (io), R28 IO, DIFFIO_RX14p (io), T26 IO, DIFFIO_RX13n (io), T27 IO, DIFFIO_RX13p (io), T28 IO, DIFFIO_RX14n (io)
part C pins: A17 IO, CLK14p (io), A18 IO, DQ11T/DQ2T/DQ1T (io), A19 IO, DQS11T/DQS2T (io), A20 IO, DQ11T/DQ2T/DQ1T (io), A21 IO, DQ13T/DQ2T/DQ1T (io), A22 IO, DQ13T/DQ2T/DQ1T (io), A23 IO, DQ15T/DQ3T/DQ1T (io), A24 IO, DQ15T/DQ3T/DQ1T (io), A25 IO, DQ17T/DQ3T/DQ1T (io), A26 IO, DQ17T/DQ3T/DQ1T (io), B17 IO, CLK14n (io), B19 IO, DQSn11T/DQSn2T/DQ1T (io), B20 IO, DQS13T/DQVLD2T/DQS1T (io), B22 IO, DQ13T/DQ2T/DQ1T (io), B23 IO, DQS15T/DQS3T/DQVLD1T (io), B25 IO, DQS17T/DQVLD3T (io), B26 IO, DQ17T/DQ3T (io), C16 IO, CLK15p (io), C18 IO, DQ11T/DQ2T/DQ1T (io), C19 IO, DQ11T/DQ2T/DQ1T (io), C20 IO, DQSn13T/DQ2T/DQSn1T (io), C21 IO, DQ13T/DQ2T/DQ1T (io), C22 IO, DQ15T/DQ3T/DQ1T (io), C23 IO, DQSn15T/DQSn3T/DQ1T (io), C24 IO, DQ15T/DQ3T/DQ1T (io), C25 IO, DQSn17T/DQ3T/DQ1T (io), C26 IO, DQ17T/DQ3T/DQ1T (io), D16 IO, CLK15n (io), D17 IO (nCSO) (io), D18 IO (io), D19 IO (io), D20 IO (io), D21 IO (DATA3) (io), D22 IO (DATA7) (io), D23 IO (DATA5) (io), E16 IO (PGM2) (io), E17 IO (CRC_ERROR) (io), F16 IO (PGM1) (io), F17 IO (DATA0) (io), F18 IO (io), F19 IO (io), F20 IO (io), F21 IO (DATA2) (io), F22 IO (DATA6) (io), G16 IO (PGM0) (io), G17 IO (io), G18 IO (io), G19 IO (io), G20 IO (io), G21 IO (DATA4) (io), G22 IO (INIT_DONE) (io), H19 IO (io), J18 IO (io), J20 IO (io), J21 IO (RDYnBSY) (io), K17 IO (DATA1) (io), K18 IO (io), K19 IO (io), K20 IO (io), L16 IO (ASDO) (io), L17 IO (io), L19 IO (io), L20 IO (io)
part D pins: A7 IO, DQ1T (io), A8 IO, DQ1T (io), A9 IO, DQ3T/DQ0T/DQ0T (io), A10 IO, DQ5T/DQ0T/DQ0T (io), A11 IO, DQ7T/DQ1T/DQ0T (io), A12 IO, DQ7T/DQ1T/DQ0T (io), A13 IO, DQ9T/DQ1T/DQ0T (io), A16 IO, CLK12p (io), B8 IO, DQSn1T (io), B10 IO, DQ3T/DQ0T/DQ0T (io), B11 IO, DQSn5T/DQ0T/DQSn0T (io), B13 IO, DQ9T/DQ1T/DQ0T (io), B14 IO, DQS9T/DQVLD1T (io), B16 IO, CLK12n (io), C7 IO, RUP4 (io), C8 IO, DQS1T (io), C9 IO, DQ3T/DQ0T/DQ0T (io), C10 IO, DQSn3T/DQSn0T/DQ0T (io), C11 IO, DQS5T/DQVLD0T/DQS0T (io), C12 IO, DQ5T/DQ0T/DQ0T (io), C13 IO, DQSn7T/DQSn1T/DQ0T (io), C14 IO, DQSn9T/DQ1T/DQ0T (io), D7 IO, RDN4 (io), D8 IO, DQ1T (io), D9 IO, DQ1T (io), D10 IO, DQS3T/DQS0T (io), D11 IO, DQ5T/DQ0T/DQ0T (io), D12 IO, DQ5T/DQ0T/DQ0T (io), D13 IO, DQS7T/DQS1T/DQVLD0T (io), D14 IO, DQ9T/DQ1T (io), E10 IO (io), E11 IO, DQ3T/DQ0T/DQ0T (io), E13 IO, DQ7T/DQ1T/DQ0T (io), E14 IO, DQ9T/DQ1T/DQ0T (io), F11 IO (io), F13 IO, DQ7T/DQ1T/DQ0T (io), F15 IO, CLK13p (io), G9 IO (io), G10 IO (io), G11 IO (io), G12 IO (io), G13 IO (io), G15 IO, CLK13n (io), H10 IO (io), H11 IO (io), H13 IO (io), J10 IO (io), J11 IO (io), K10 IO (io), K11 IO (io), K12 IO (io), K13 IO (io), K14 IO (io), L12 IO (io), L13 IO (io), L14 IO (io)
part E pins: AA11 IO (io), AB8 IO, RUP7 (io), AB9 IO (io), AB10 IO (io), AB11 IO (io), AB12 IO (io), AB13 IO (io), AC8 IO, RDN7 (io), AC9 IO (io), AC11 IO (io), AC12 IO (io), AC13 IO, DQ9B/DQ1B/DQ0B (io), AC14 IO, DQ9B/DQ1B/DQ0B (io), AD10 IO, DQ3B/DQ0B/DQ0B (io), AD11 IO, DQ5B/DQ0B/DQ0B (io), AD13 IO, DQ9B/DQ1B/DQ0B (io), AE7 IO, DQ1B (io), AE8 IO, DQ1B (io), AE9 IO, DQS3B/DQS0B (io), AE10 IO, DQ3B/DQ0B/DQ0B (io), AE11 IO, DQS5B/DQVLD0B/DQS0B (io), AE12 IO, DQS7B/DQS1B/DQVLD0B (io), AE13 IO, DQSn9B/DQ1B/DQ0B (io), AE15 IO, CLK7n (io), AF7 IO, DQ1B (io), AF8 IO, DQS1B (io), AF9 IO, DQSn3B/DQSn0B/DQ0B (io), AF10 IO, DQ5B/DQ0B/DQ0B (io), AF11 IO, DQSn5B/DQ0B/DQSn0B (io), AF12 IO, DQSn7B/DQSn1B/DQ0B (io), AF13 IO, DQS9B/DQVLD1B (io), AF15 IO, CLK7p (io), AG8 IO, DQSn1B (io), AG10 IO, DQ5B/DQ0B/DQ0B (io), AG11 IO, DQ7B/DQ1B/DQ0B (io), AG13 IO, DQ9B/DQ1B (io), AG16 IO, CLK6n (io), AH7 IO, DQ1B (io), AH8 IO, DQ3B/DQ0B/DQ0B (io), AH9 IO, DQ3B/DQ0B/DQ0B (io), AH10 IO, DQ5B/DQ0B/DQ0B (io), AH11 IO, DQ7B/DQ1B/DQ0B (io), AH12 IO, DQ7B/DQ1B/DQ0B (io), AH13 IO, DQ7B/DQ1B/DQ0B (io), AH16 IO, CLK6p (io), V11 IO (io), V13 IO (io), W9 IO (io), W10 IO (io), W11 IO (io), W12 IO (io), Y10 IO (io), Y11 IO (io), Y13 IO (io)
part F pins: AA17 IO (io), AA19 IO (io), AB15 IO, CLK5n (io), AB16 IO (io), AB17 IO (io), AB18 IO (io), AB19 IO (io), AB20 IO (io), AC15 IO, CLK5p (io), AC16 IO (RUnLU) (io), AC17 IO (io), AC18 IO (io), AC19 IO (io), AC20 IO (io), AC21 IO (CLKUSR) (io), AD16 IO (DEV_OE) (io), AD20 IO (io), AE17 IO (DEV_CLRn) (io), AE18 IO (io), AE19 IO (io), AE20 IO (io), AE21 IO (nRS) (io), AE22 IO (nWS) (io), AE23 IO (io), AE24 IO (CS) (io), AF17 IO (nCS) (io), AF18 IO, DQ11B/DQ2B/DQ1B (io), AF19 IO, DQ11B/DQ2B/DQ1B (io), AF20 IO, DQSn13B/DQ2B/DQSn1B (io), AF21 IO, DQ13B/DQ2B/DQ1B (io), AF22 IO, DQ15B/DQ3B/DQ1B (io), AF23 IO, DQSn15B/DQSn3B/DQ1B (io), AF24 IO, DQ15B/DQ3B/DQ1B (io), AF25 IO, DQSn17B/DQ3B/DQ1B (io), AF26 IO, DQ17B/DQ3B (io), AG17 IO, CLK4n (io), AG19 IO, DQSn11B/DQSn2B/DQ1B (io), AG20 IO, DQS13B/DQVLD2B/DQS1B (io), AG22 IO, DQ13B/DQ2B/DQ1B (io), AG23 IO, DQS15B/DQS3B/DQVLD1B (io), AG25 IO, DQS17B/DQVLD3B (io), AG26 IO, DQ17B/DQ3B/DQ1B (io), AH17 IO, CLK4p (io), AH18 IO, DQ11B/DQ2B/DQ1B (io), AH19 IO, DQS11B/DQS2B (io), AH20 IO, DQ11B/DQ2B/DQ1B (io), AH21 IO, DQ13B/DQ2B/DQ1B (io), AH22 IO, DQ13B/DQ2B/DQ1B (io), AH23 IO, DQ15B/DQ3B/DQ1B (io), AH24 IO, DQ15B/DQ3B/DQ1B (io), AH25 IO, DQ17B/DQ3B/DQ1B (io), AH26 IO, DQ17B/DQ3B/DQ1B (io), W15 IO (io), W16 IO (io), Y15 IO (io), Y17 IO (io)
part G pins: A14 IO, PLL5_OUT0n (io), A15 IO, PLL5_OUT0p (io), C15 IO, PLL5_OUT1p (io), D15 IO, PLL5_OUT1n (io), F14 IO, PLL5_FBp/OUT2p (io), G14 IO, PLL5_FBn/OUT2n (io)
part H pins: AD14 IO, PLL6_FBn/OUT2n (io), AE14 IO, PLL6_FBp/OUT2p (io), AF14 IO, PLL6_OUT1n (io), AG14 IO, PLL6_OUT1p (io), AH14 IO, PLL6_OUT0n (io), AH15 IO, PLL6_OUT0p (io)
part I pins: C4 GXB_TX1p (out), C5 GXB_TX1n (out), E1 GXB_RX1p (in), E2 GXB_RX1n (in), E4 GXB_TX0p (out), E5 GXB_TX0n (out), G1 GXB_RX0p (in), G2 GXB_RX0n (in), G4 REFCLK1_B13p (in), G5 REFCLK1_B13n (in), J1 REFCLK0_B13p (in), J2 REFCLK0_B13n (in), L1 GXB_RX2p (in), L2 GXB_RX2n (in), L4 GXB_TX2p (out), L5 GXB_TX2n (out), N1 GXB_RX3p (in), N2 GXB_RX3n (in), N4 GXB_TX3p (out), N5 GXB_TX3n (out)
part J pins: T24 CLK1n, INPUT (in), T25 CLK1p, INPUT (in), U25 CLK3n, INPUT (in), U26 CLK3p, INPUT (in)
part K pins: AB14 VREFB7N0 (in), AC10 VREFB7N1 (in), AD17 VREFB8N1 (in), AD19 VREFB8N0 (in), E19 VREFB3N0 (in), E20 VREFB3N1 (in), F10 VREFB4N0 (in), F12 VREFB4N1 (in), J4 RREFB13 (in), M23 VREFB2N1 (in), T21 VREFB2N0 (in), W23 VREFB1N1 (in), Y23 VREFB1N0 (in)
part L pins: AA8 PLL_ENA (in), AB7 nCEO (out), D24 nCE (in), D25 DCLK (io), D26 CONF_DONE (io), E8 MSEL1 (in), E23 nSTATUS (io), F7 TEMPDIODEp (in), F8 TDO (out), G7 TEMPDIODEn (in), G8 MSEL3 (in), H8 MSEL2 (in), J8 MSEL0 (in), J13 VCCPD4 (power), J17 VCCPD3 (power), P20 VCCPD2 (power), T20 VCCPD1 (power), V16 TCK (in), V17 nCONFIG (in), V19 TDI (in), W17 TRST (in), W18 VCCSEL (in), W19 TMS (in), Y7 nIO_PULLUP (in), Y8 PORSEL (in), Y12 VCCPD7 (power), Y16 VCCPD8 (power)
part M pins: AA10 VCCIO7 (power), AA13 VCCIO7 (power), AA16 VCCIO8 (power), H14 VCCIO4 (power), H17 VCCIO3 (power), H20 VCCIO3 (power), J9 VCCIO4 (power), J12 VCCIO4 (power), J19 VCCIO3 (power), J22 VCCIO2 (power), K9 VCCA (power), L6 VCCA (power), L7 VCCR (power), L8 VCCT_B13 (power), L9 VCCH_B13 (power), L10 VCCP (power), L22 VCCIO2 (power), M6 VCCA (power), M7 VCCR (power), M8 VCCT_B13 (power), M9 VCCH_B13 (power), M10 VCCP (power), M11 VCCINT (power), M13 VCCINT (power), M15 VCCINT (power), M17 VCCINT (power), N6 VCCL (power), N12 VCCINT (power), N14 VCCINT (power), N16 VCCINT (power), N18 VCCINT (power), N21 VCCIO2 (power), P7 VCCA (power), P9 VCCA (power), P11 VCCINT (power), P13 VCCINT (power), P15 VCCINT (power), P17 VCCINT (power), R6 VCCA (power), R7 VCCR (power), R8 VCCT_B14 (power), R9 VCCH_B14 (power), R10 VCCP (power), R12 VCCINT (power), R14 VCCINT (power), R16 VCCINT (power), R18 VCCINT (power), T6 VCCA (power), T7 VCCR (power), T8 VCCT_B14 (power), T9 VCCH_B14 (power), T10 VCCP (power), T11 VCCINT (power), T13 VCCINT (power), T15 VCCINT (power), T17 VCCINT (power), U6 VCCL (power), U12 VCCINT (power), U14 VCCINT (power), U16 VCCINT (power), U18 VCCINT (power), U22 VCCIO1 (power), V7 VCCA (power), V9 VCCA (power), V21 VCCIO1 (power), Y9 VCCIO7 (power), Y18 VCCIO8 (power), Y19 VCCIO8 (power), Y22 VCCIO1 (power)
part N pins: A2 GND (power), A3 GND (power), A4 GND (power), A5 GND (power), A6 GND (power), A27 GND (power), AA1 GND (power), AA2 GND (power), AA3 GND (power), AA4 GND (power), AA5 GND (power), AA6 GND (power), AA7 GND (power), AA9 GND (power), AA12 GND (power), AA15 GND (power), AA18 GND (power), AA20 GND (power), AA21 GND (power), AA24 GND (power), AA27 GND (power), AB3 GND (power), AB6 GND (power), AC1 GND (power), AC2 GND (power), AC3 GND (power), AC4 GND (power), AC5 GND (power), AC6 GND (power), AC7 GND (power), AD3 GND (power), AD6 GND (power), AD7 GND (power), AD9 GND (power), AD12 GND (power), AD15 GND (power), AD18 GND (power), AD21 GND (power), AD24 GND (power), AD27 GND (power), AE1 GND (power), AE2 GND (power), AE3 GND (power), AE4 GND (power), AE5 GND (power), AE6 GND (power), AF1 GND (power), AF2 GND (power), AF3 GND (power), AF6 GND (power), AG1 GND (power), AG2 GND (power), AG3 GND (power), AG4 GND (power), AG5 GND (power), AG6 GND (power), AG7 GND (power), AG9 GND (power), AG12 GND (power), AG15 GND (power), AG18 GND (power), AG21 GND (power), AG24 GND (power), AG27 GND (power), AG28 GND (power), AH2 GND (power), AH3 GND (power), AH4 GND (power), AH5 GND (power), AH6 GND (power), AH27 GND (power), B1 GND (power), B2 GND (power), B3 GND (power), B4 GND (power), B5 GND (power), B6 GND (power), B7 GND (power), B9 GND (power), B12 GND (power), B15 GND (power), B18 GND (power), B21 GND (power), B24 GND (power), B27 GND (power), B28 GND (power), C1 GND (power), C2 GND (power), C3 GND (power), C6 GND (power), D1 GND (power), D2 GND (power), D3 GND (power), D4 GND (power), D5 GND (power), D6 GND (power), E3 GND (power), E6 GND (power), E7 GND (power), E9 GND (power), E12 GND (power), E15 GND (power), E18 GND (power), E21 GND (power), E24 GND (power), E27 GND (power), F1 GND (power), F2 GND (power), F3 GND (power), F4 GND (power), F5 GND (power), F6 GND (power), G3 GND (power), G6 GND (power), H1 GND (power), H2 GND (power), H3 GND (power), H4 GND (power), H5 GND (power), H6 GND (power), H7 GND (power), H9 GND (power), H12 GND (power), H15 GND (power), H16 GND (power), H18 GND (power), H21 GND (power), H24 GND (power), H27 GND (power), J3 GND (power), J5 GND (power), J6 GND (power), J7 GND (power), K1 GND (power), K2 GND (power), K3 GND (power), K4 GND (power), K5 GND (power), K6 GND (power), L3 GND (power), L11 GND (power), L15 GND (power), L18 GND (power), L21 GND (power), L24 GND (power), L27 GND (power), M1 GND (power), M2 GND (power), M3 GND (power), M4 GND (power), M5 GND (power), M12 GND (power), M14 GND (power), M16 GND (power), M18 GND (power), M19 GND (power), N3 GND (power), N7 GND (power), N8 GND (power), N9 GND (power), N10 GND (power), N11 GND (power), N13 GND (power), N15 GND (power), N17 GND (power), N19 GND (power), N24 GND (power), N27 GND (power), P1 GND (power), P2 GND (power), P3 GND (power), P4 GND (power), P5 GND (power), P6 GND (power), P8 GND (power), P10 GND (power), P12 GND (power), P14 GND (power), P16 GND (power), P18 GND (power), P19 GND (power), P21 GND (power), R1 GND (power), R2 GND (power), R3 GND (power), R4 GND (power), R5 GND (power), R11 GND (power), R13 GND (power), R15 GND (power), R17 GND (power), R19 GND (power), R24 GND (power), R27 GND (power), T3 GND (power), T12 GND (power), T14 GND (power), T16 GND (power), T18 GND (power), U1 GND (power), U2 GND (power), U3 GND (power), U4 GND (power), U5 GND (power), U7 GND (power), U8 GND (power), U9 GND (power), U10 GND (power), U11 GND (power), U13 GND (power), U15 GND (power), U17 GND (power), U21 GND (power), V3 GND (power), V6 GND (power), V8 GND (power), V10 GND (power), V12 GND (power), V15 GND (power), V18 GND (power), V24 GND (power), V27 GND (power), W1 GND (power), W2 GND (power), W3 GND (power), W4 GND (power), W5 GND (power), W6 GND (power), W7 GND (power), W8 GND (power), W20 GND (power), W22 GND (power), Y3 GND (power), Y5 GND (power), Y6 GND (power), Y20 GND (power)
part O pins: AA14 VCC_PLL6_OUT (power), J14 VCC_PLL5_OUT (power), J15 VCCA_PLL5 (power), J16 GNDA_PLL5 (power), K15 GNDA_PLL5 (power), K16 VCCD_PLL5 (power), N22 VCCD_PLL1 (power), N23 VCCA_PLL1 (power), P22 GNDA_PLL1 (power), P23 GNDA_PLL1 (power), R22 GNDA_PLL2 (power), R23 GNDA_PLL2 (power), T22 VCCD_PLL2 (power), T23 VCCA_PLL2 (power), V14 VCCD_PLL6 (power), W13 GNDA_PLL6 (power), W14 GNDA_PLL6 (power), Y14 VCCA_PLL6 (power)
part P pins: AB1 NC, AB2 NC, AB4 NC, AB5 NC, AD1 NC, AD2 NC, AD4 NC, AD5 NC, AD8 NC, AD22 NC, AD23 NC, AE16 NC, AF4 NC, AF5 NC, AF16 NC, C17 NC, E22 NC, F9 NC, F25 NC, K7 NC, K8 NC, T1 NC, T2 NC, T4 NC, T5 NC, V1 NC, V2 NC, V4 NC, V5 NC, Y1 NC, Y2 NC, Y4 NC
part A text: BANK 1
part B text: BANK 2
part C text: BANK 3
part D text: BANK 4
part E text: BANK 7
part F text: BANK 8
part G text: BANK 9
part H text: BANK 10
part I text: BANK 13

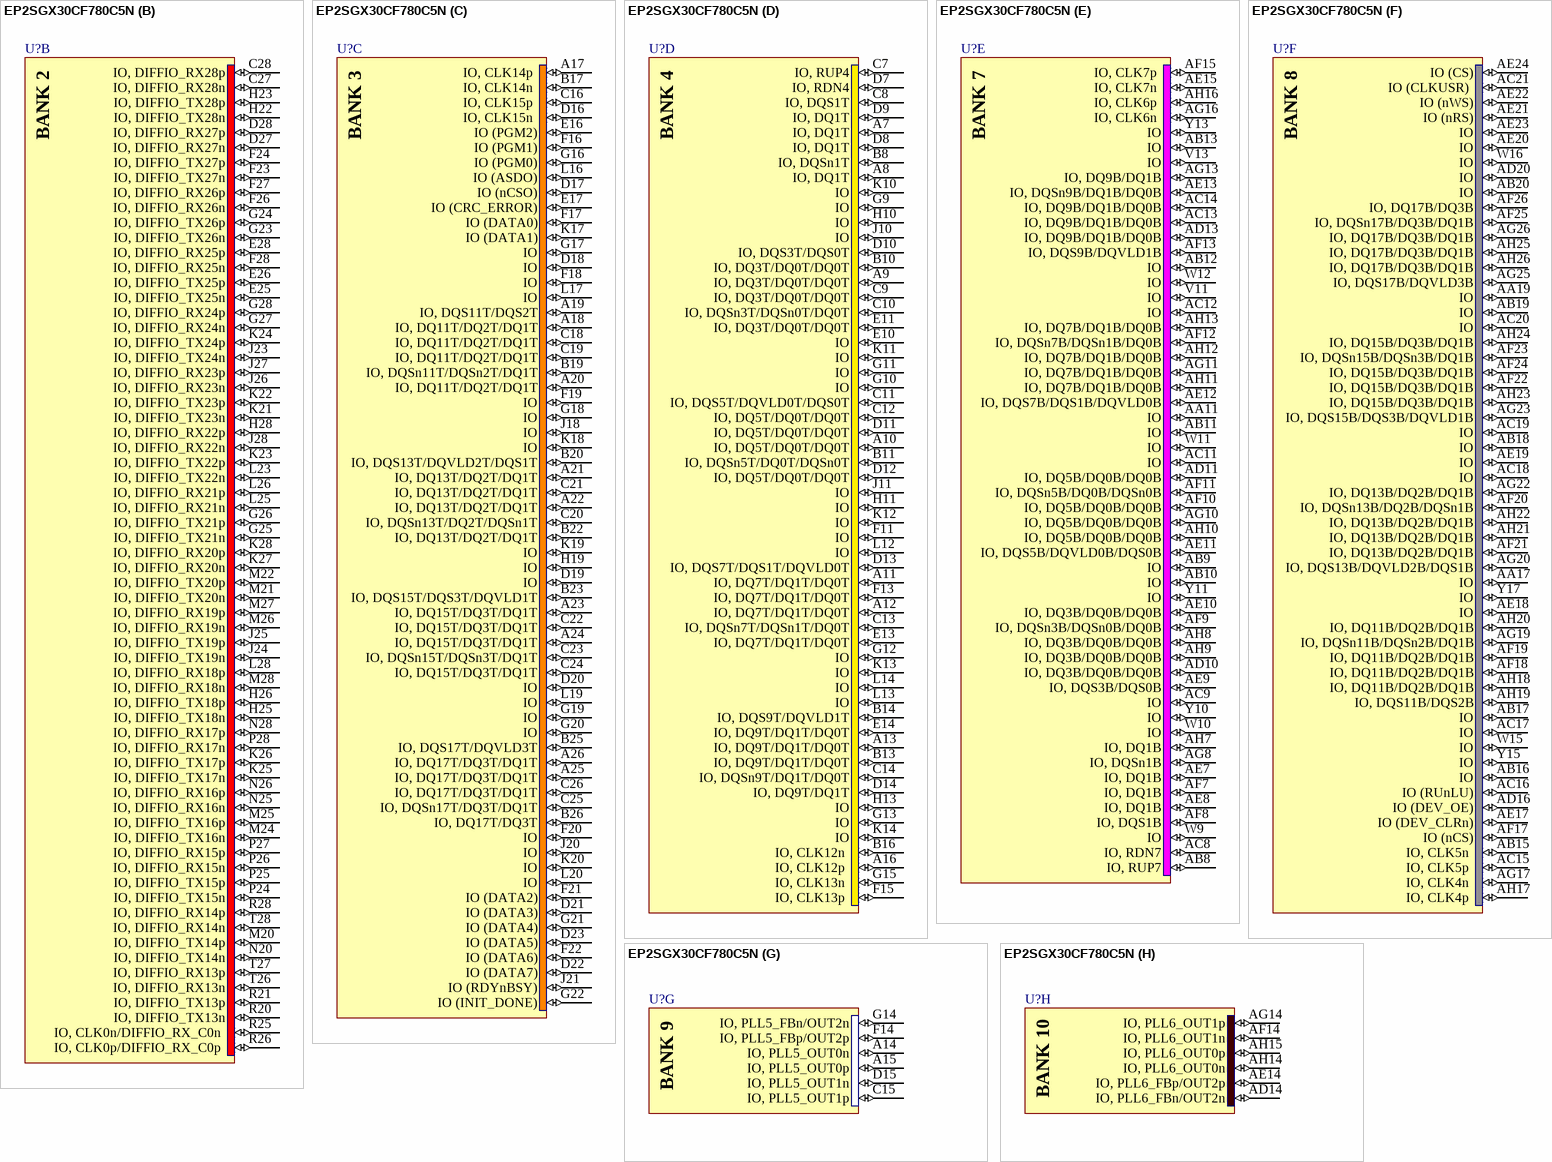
[diagram p13: symbol EP2SGX30CF780C5N]

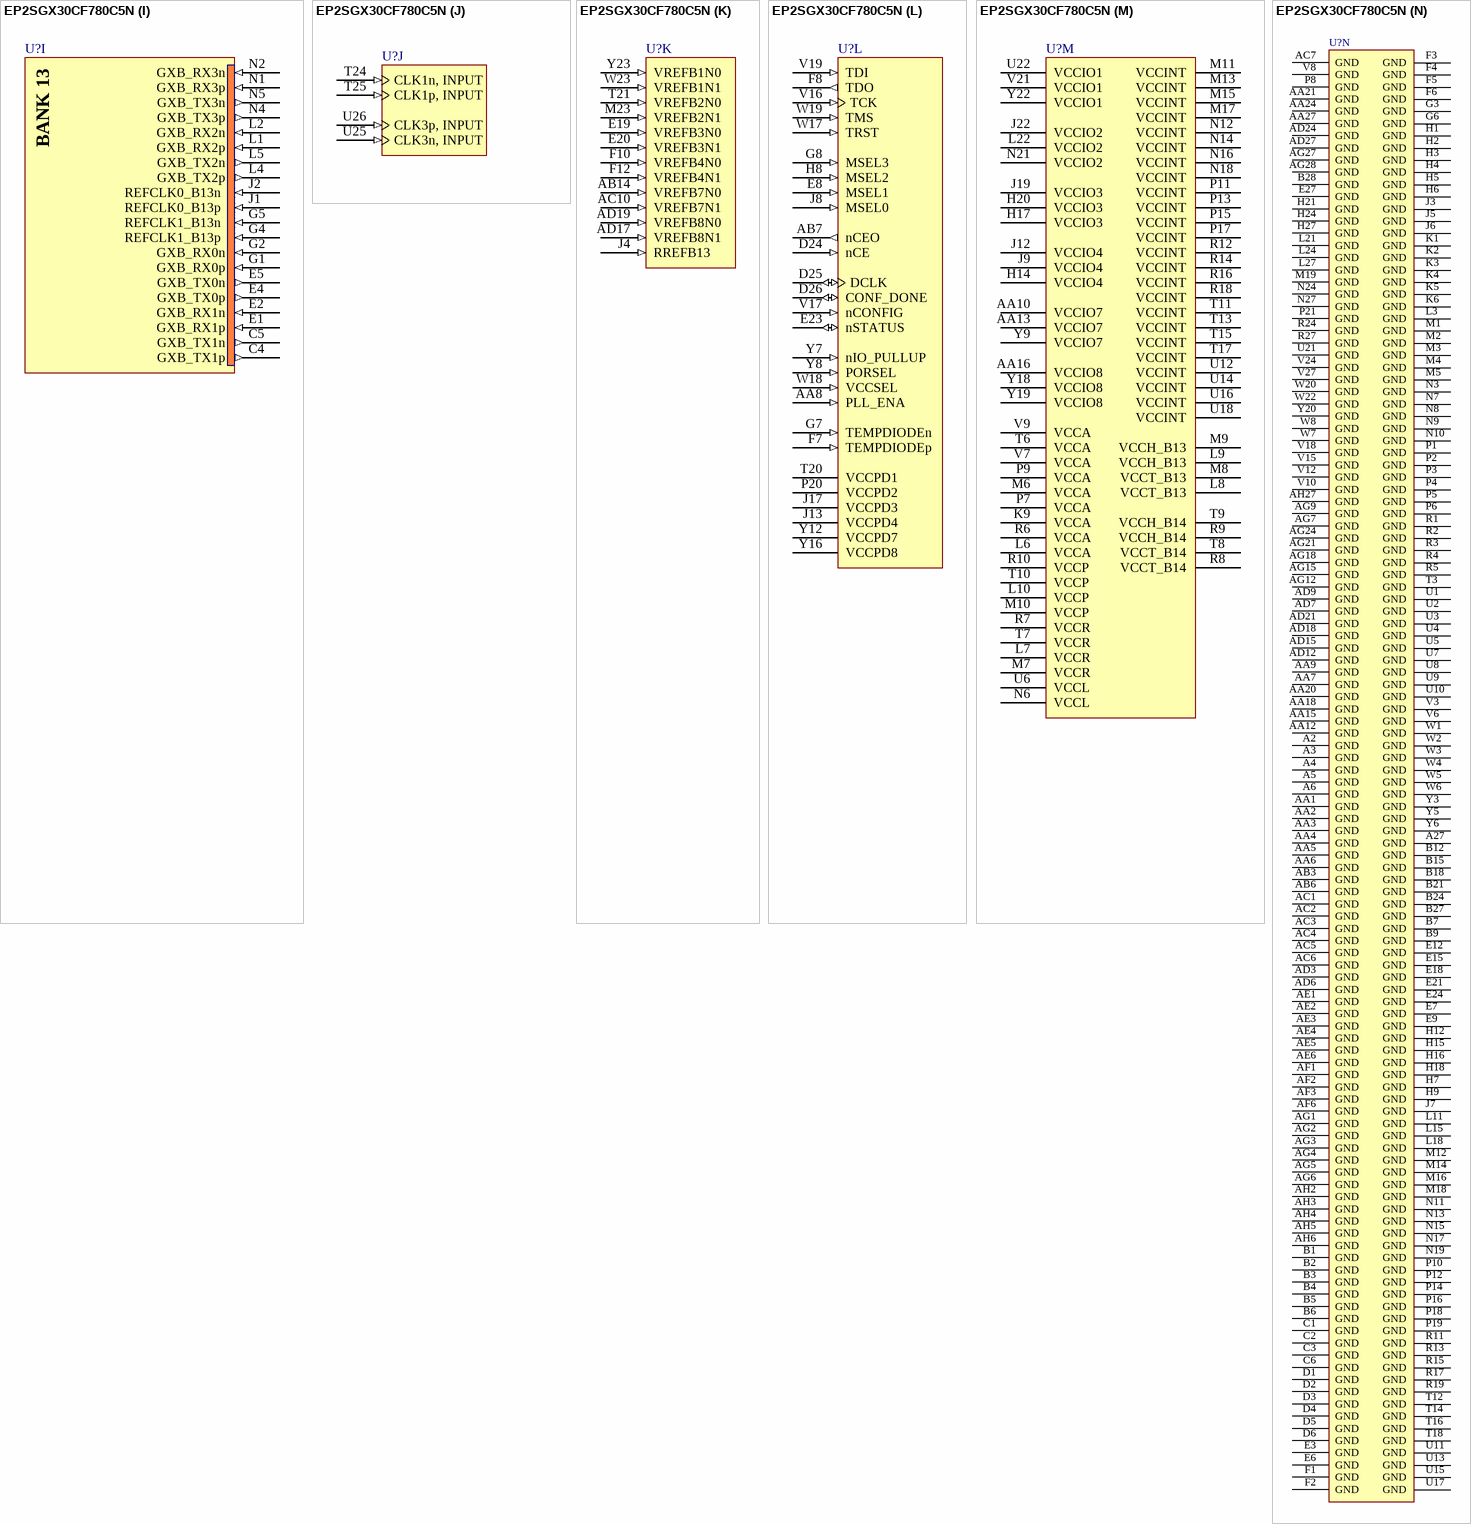
[diagram p14: symbol EP2SGX30CF780C5N]

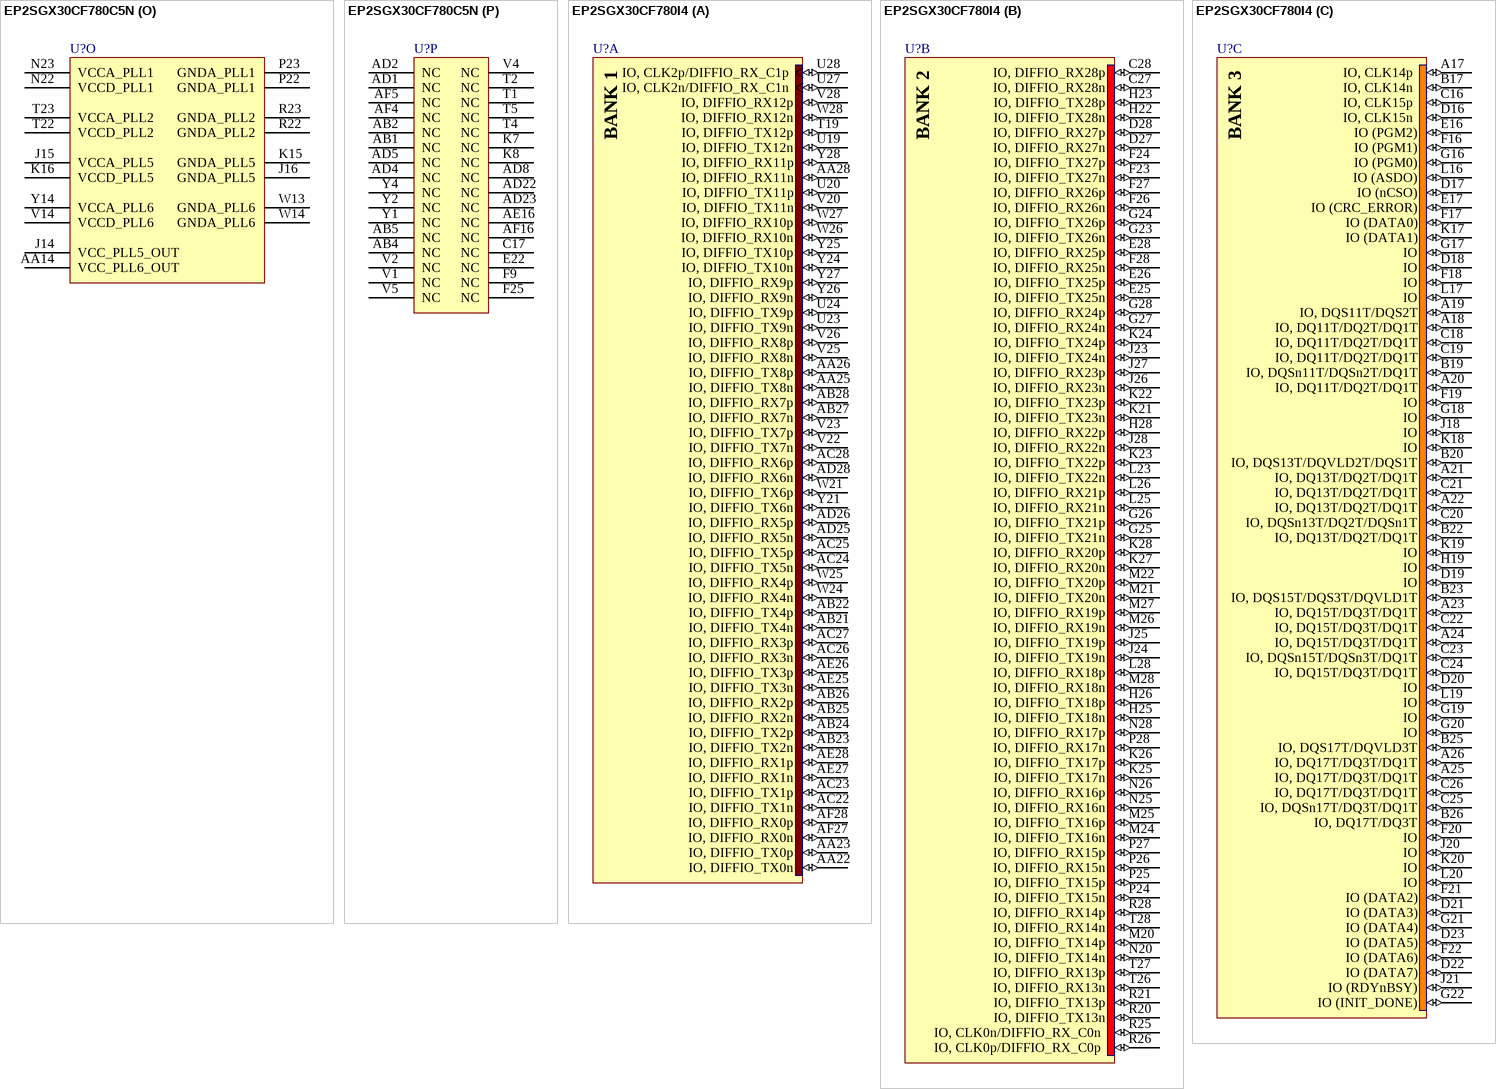
[diagram p15: symbols EP2SGX30CF780C5N to EP2SGX30CF780I4]